# Altium footprint library sion.PcbLib: 26 footprints (part 1 of 2)
Each footprint in its own frame and in the unit in brackets; x right, y up, seen from the top. Pads: shape width x height; smd on the part's side, far side on the other; paste and mask are expansions set on the pad; w line width, h text height; cw(c..) or ccw(c..) is an arc to the next point about the centre after c.
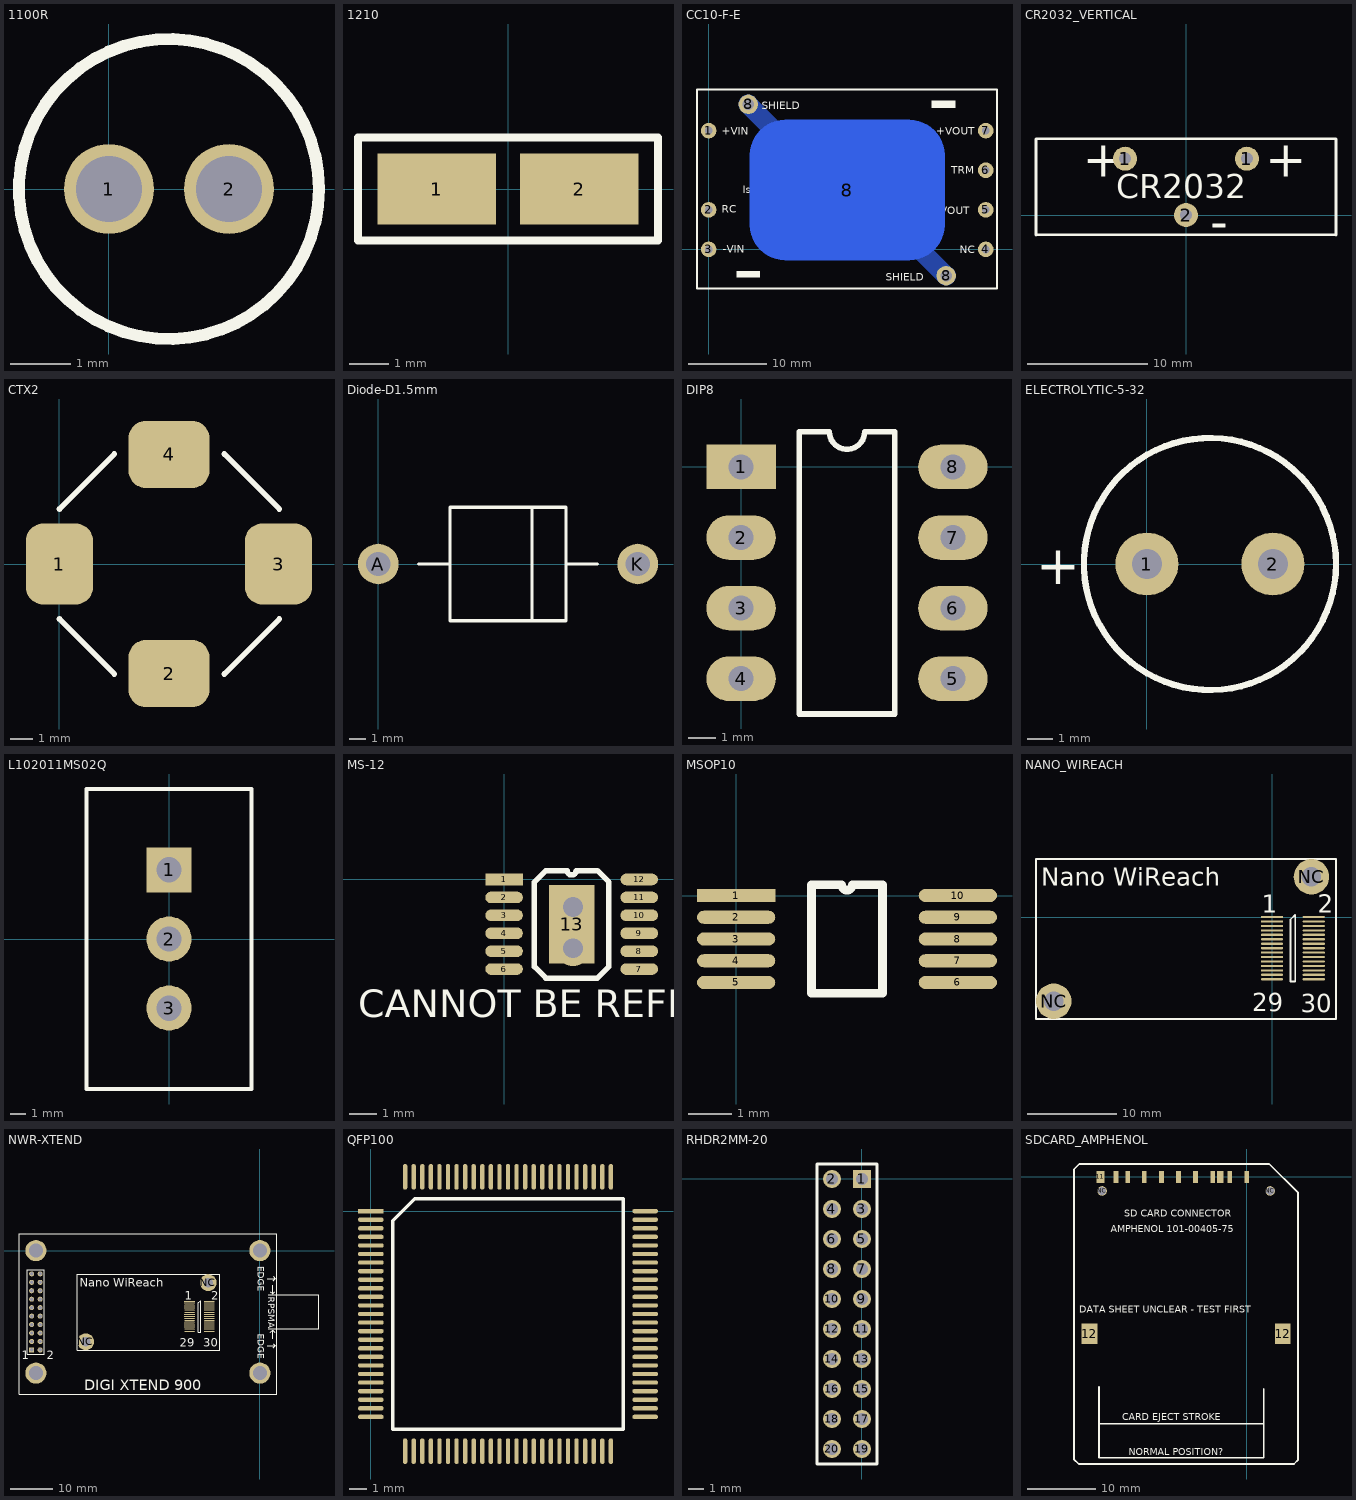
[diagram p0: the footprints below, top view; thin cyan lines are the x and y axes]

## 1100R [mm] "Radial Inductor"
pads (2):
  round 1.5 hole 1.1: 1(0,0) 2(2,0)
Top Overlay:
  circle w0.2: c1,0 r2.5

## 1210 [mm]
pads (2):
  rect 3x1.8 smd: 1(-1.8,0) 2(1.8,0)
Top Overlay:
  lines w0.2: -3.8,-1.3 -3.8,1.3 3.8,1.3 3.8,-1.3 -3.8,-1.3

## CC10-F-E [mm]
pads (10):
  round 2 hole 1: 1(0,15.24) 2(0,5.08) 3(0,0) 4(35.56,0) 5(35.56,5.08) 6(35.56,10.16) 7(35.56,15.24)
  round 2.5 hole 1.5: 8(5.08,18.62) 8(30.48,-3.38)
  rrect50% 25x18 smd far side: 8(17.78,7.62)
Bottom Layer:
  lines w2.5: 5.08,18.62 16.08,7.62 ; 19.48,7.62 30.48,-3.38
Top Overlay:
  rectangle: 3.58,-3.58 6.58,-2.78
  rectangle: 28.62,18.12 31.68,19.12
  lines w0.254: -1.5,-5 -1.5,-2 -1.5,20.5 37,20.5 37,-5 -1.5,-5
  text "SHIELD" at 22.7,-4 h1
  text "SHIELD" at 6.8,18 h1
  text "TDK-Lambda CC10-F-E" at 7.3,9.7 h1
  text "Isolated 10W DC-DC Converter" at 4.4,7.2 h1
  text "+VIN" at 1.7,14.7 h1
  text "RC" at 1.7,4.7 h1
  text "-VIN" at 1.8,-0.4 h1
  text "NC" at 32.2,-0.5 h1
  text "-VOUT" at 29.2,4.5 h1
  text "TRM" at 31.1,9.7 h1
  text "+VOUT" at 29.2,14.7 h1

## CR2032_VERTICAL [mm] "VBH2032-1-LF Coin cell vertical holder"
pads (3):
  round 2 hole 1: 1(-5.075,4.7) 1(5.075,4.7) 2(0,0)
Top Overlay:
  lines w0.2: -12.5,-1.65 12.5,-1.65 ; -12.5,6.35 12.5,6.35
  lines w0.254: -12.5,-1.65 -12.5,6.35 ; 12.5,-1.65 12.5,6.35
  text "+" at -8.6,3.2 h3
  text "+" at 6.6,3.2 h3
  text "-" at 2,-2 h3
  text "CR2032" at -5.8,1.4 h2

## CTX2 [mm] "Coupled Inductors"
pads (4):
  rrect50% 3.05x3.68 smd: 1(0,0) 3(9.96,0)
  rrect50% 3.68x3.05 smd: 2(4.98,-4.98) 4(4.98,4.98)
Top Overlay:
  lines w0.254: 0,-2.5 2.5,-5 ; 0,2.5 2.5,5 ; 7.5,-5 10,-2.5 ; 7.5,5 10,2.5

## Diode-D1.5mm [mm]
pads (2):
  round 2.5 hole 1.5: A(0,0) K(16,0)
Top Overlay:
  lines w0.2: 2.5,0 4.425,0 ; 9.475,-3.5 9.475,3.5 ; 11.575,0 13.5,0 ; 4.425,0 4.425,-3.5 11.575,-3.5 11.575,3.5 4.425,3.5 4.425,0

## DIP8 [mm]
pads (8):
  rect 2.5x1.6 hole 0.9: 1(0,0)
  oval 2.5x1.6 hole 0.9: 2(0,-2.54) 3(0,-5.08) 4(0,-7.62) 5(7.62,-7.62) 6(7.62,-5.08) 7(7.62,-2.54) 8(7.62,0)
Top Overlay:
  lines w0.2: 2.085,-8.89 2.085,1.27 3.175,1.27 ccw(c3.81,1.27) 4.445,1.27 5.535,1.27 5.535,-8.89 2.085,-8.89

## ELECTROLYTIC-5-32 [mm] "Supercapacitor"
pads (2):
  round 2.5 hole 1.2: 1(0,0) 2(5,0)
Top Overlay:
  circle w0.254: c2.5,0 r5
  text "+" at -4.4,-0.8 h1.52

## L102011MS02Q [mm] "SPDT 4A PCB CKC5107-ND"
pads (3):
  rect 3x3 hole 1.7: 1(0,4.6)
  round 3 hole 1.7: 2(0,0) 3(0,-4.6)
Top Overlay:
  lines w0.254: -5.5,-10 -5.5,10 5.5,10 5.5,-10 -5.5,-10

## MS-12 [mm] "LTC4425"
pads (13):
  rect 1.364x0.42 smd: 1(0,0)
  oval 1.364x0.42 smd: 2(0,-0.65) 3(0,-1.3) 4(0,-1.95) 5(0,-2.6) 6(0,-3.25) 7(4.9,-3.25) 8(4.9,-2.6) 9(4.9,-1.95) 10(4.9,-1.3) 11(4.9,-0.65) 12(4.9,0)
  rect 1.651x2.845 smd: 13(2.45,-1.625)
via 2.5,-2.5 diameter 1.27 hole 0.711
via 2.5,-1 diameter 1.27 hole 0.711
Top Overlay:
  lines w0.2: 1.1,-3.158 1.1,-0.092 1.517,0.325 2.288,0.325 ccw(c2.45,0.325) 2.612,0.325 3.383,0.325 3.8,-0.092 3.8,-3.158 3.383,-3.575 1.517,-3.575 1.1,-3.158
  text "CANNOT BE REFLOWED" at -5.3,-5 h1

## MSOP10 [mm] "ADM1191"
pads (10):
  rect 1.8x0.3 smd: 1(0,0)
  oval 1.8x0.3 smd: 2(0,-0.5) 3(0,-1) 4(0,-1.5) 5(0,-2) 6(5.1,-2) 7(5.1,-1.5) 8(5.1,-1) 9(5.1,-0.5) 10(5.1,0)
Top Overlay:
  lines w0.2: 1.735,-2.25 3.365,-2.25 3.365,0.25 2.675,0.25 cw(c2.55,0.25) 2.425,0.25 1.735,0.25 1.735,-2.25

## NANO_WIREACH [mm]
pads (32):
  rect 2.5x0.25 smd: 1(0,0)
  oval 2.5x0.25 smd: 2(4.7,0) 3(0,-0.5) 4(4.7,-0.5) 5(0,-1) 6(4.7,-1) 7(0,-1.5) 8(4.7,-1.5) 9(0,-2) 10(4.7,-2) 11(0,-2.5) 12(4.7,-2.5) 13(0,-3) 14(4.7,-3) 15(0,-3.5) 16(4.7,-3.5) 17(0,-4) 18(4.7,-4) 19(0,-4.5) 20(4.7,-4.5) 21(0,-5) 22(4.7,-5) 23(0,-5.5) 24(4.7,-5.5) 25(0,-6) 26(4.7,-6) 27(0,-6.5) 28(4.7,-6.5) 29(0,-7) 30(4.7,-7)
  round 4 hole 2.2: NC(-24.56,-9.47) NC(4.44,4.53)
Top Overlay:
  lines w0.2: 2.085,-7.25 2.085,-0.28 2.615,0.25 2.615,-7.25 2.085,-7.25
  lines w0.254: -26.56,-11.47 -18.55,-11.47 -3.95,-11.47 7.2,-11.47 7.2,-6 7.2,1.3 7.2,6.53 -4.75,6.53 -12.75,6.53 -26.56,6.53 -26.56,3.6 -26.56,-8 -26.56,-11.47
  text "2" at 5.15,0.5 h2
  text "30" at 3.25,-10.7 h2
  text "29" at -2.25,-10.6 h2
  text "Nano WiReach" at -25.95,3.5 h2
  text "1" at -1.15,0.5 h2

## NWR-XTEND [mm] "Dual footprint Nano Wireach - Digi XTEND"
pads (56):
  rect 2.5x0.25 smd: 1(-16.65,-12.1)
  oval 2.5x0.25 smd: 2(-11.95,-12.1) 3(-16.65,-12.6) 4(-11.95,-12.6) 5(-16.65,-13.1) 6(-11.95,-13.1) 7(-16.65,-13.6) 8(-11.95,-13.6) 9(-16.65,-14.1) 10(-11.95,-14.1) 11(-16.65,-14.6) 12(-11.95,-14.6) 13(-16.65,-15.1) 14(-11.95,-15.1) 15(-16.65,-15.6) 16(-11.95,-15.6) 17(-16.65,-16.1) 18(-11.95,-16.1) 19(-16.65,-16.6) 20(-11.95,-16.6) 21(-16.65,-17.1) 22(-11.95,-17.1) 23(-16.65,-17.6) 24(-11.95,-17.6) 25(-16.65,-18.1) 26(-11.95,-18.1) 27(-16.65,-18.6) 28(-11.95,-18.6) 29(-16.65,-19.1) 30(-11.95,-19.1)
  rect 1.2x1.2 hole 0.8: 101(-54,-23.5)
  round 1.2 hole 0.8: 102(-52,-23.5) 103(-54,-21.5) 104(-52,-21.5) 105(-54,-19.5) 106(-52,-19.5) 107(-54,-17.5) 108(-52,-17.5) 109(-54,-15.5) 110(-52,-15.5) 111(-54,-13.5) ""(-54,-11.5) ""(-54,-9.5) ""(-54,-7.5) ""(-54,-5.5) ""(-52,-13.5) ""(-52,-11.5) ""(-52,-9.5) ""(-52,-7.5) ""(-52,-5.5)
  round 4 hole 2.2: NC(-41.21,-21.57) NC(-12.21,-7.57)
  round 5 hole 3.3: ""(-53,-29) ""(-53,0) ""(0,-29) ""(0,0)
Top Overlay:
  lines w0.2: -55,-24.5 -55,-4.5 -51,-4.5 -51,-24.5 -55,-24.5 ; -14.565,-19.35 -14.035,-19.35 -14.035,-11.85 -14.565,-12.38 -14.565,-19.35
  lines w0.254: 1.7,-22.5 3.7,-22.5 ; 1.7,-6.6 3.7,-6.6 ; 2,-18.5 14,-18.5 14,-10.5 2,-10.5 ; 2.5,-19.3 3,-18.8 ; 2.5,-9.7 3,-10.2 ; 3,-20.8 3,-18.8 ; 3,-8.2 3,-10.2 ; 3.2,-23 3.7,-22.5 ; 3.2,-22 3.7,-22.5 ; 3.2,-7.1 3.7,-6.6 ; 3.2,-6.1 3.7,-6.6 ; 3.5,-19.3 3,-18.8 ; 3.5,-9.7 3,-10.2 ; -57,-34 -57,4 4,4 4,-34 -57,-34 ; -43.21,-23.57 -43.21,-20.1 -43.21,-8.5 -43.21,-5.57 -29.4,-5.57 -21.4,-5.57 -9.45,-5.57 -9.45,-10.8 -9.45,-18.1 -9.45,-23.57 -20.6,-23.57 -35.2,-23.57 -43.21,-23.57
  text "2" at -50.4,-25.7 h2
  text "1" at -56.4,-25.7 h2
  text "DIGI XTEND 900" at -41.6,-33 h2.5
  text "EDGE" at -0.5,-19.7 h1.52
  text "EDGE" at -0.5,-3.7 h1.52
  text "RPSMA" at 2,-10.9 h1.52
  text "1" at -17.8,-11.6 h2
  text "Nano WiReach" at -42.6,-8.6 h2
  text "29" at -18.9,-22.7 h2
  text "30" at -13.4,-22.8 h2
  text "2" at -11.5,-11.6 h2

## QFP100 [mm]
pads (100):
  rect 1.5x0.25 smd: 1(0,0)
  oval 1.5x0.25 smd: 2(0,-0.5) 3(0,-1) 4(0,-1.5) 5(0,-2) 6(0,-2.5) 7(0,-3) 8(0,-3.5) 9(0,-4) 10(0,-4.5) 11(0,-5) 12(0,-5.5) 13(0,-6) 14(0,-6.5) 15(0,-7) 16(0,-7.5) 17(0,-8) 18(0,-8.5) 19(0,-9) 20(0,-9.5) 21(0,-10) 22(0,-10.5) 23(0,-11) 24(0,-11.5) 25(0,-12) 51(16,-12) 52(16,-11.5) 53(16,-11) 54(16,-10.5) 55(16,-10) 56(16,-9.5) 57(16,-9) 58(16,-8.5) 59(16,-8) 60(16,-7.5) 61(16,-7) 62(16,-6.5) 63(16,-6) 64(16,-5.5) 65(16,-5) 66(16,-4.5) 67(16,-4) 68(16,-3.5) 69(16,-3) 70(16,-2.5) 71(16,-2) 72(16,-1.5) 73(16,-1) 74(16,-0.5) 75(16,0)
  oval 0.25x1.5 smd: 26(2,-14) 27(2.5,-14) 28(3,-14) 29(3.5,-14) 30(4,-14) 31(4.5,-14) 32(5,-14) 33(5.5,-14) 34(6,-14) 35(6.5,-14) 36(7,-14) 37(7.5,-14) 38(8,-14) 39(8.5,-14) 40(9,-14) 41(9.5,-14) 42(10,-14) 43(10.5,-14) 44(11,-14) 45(11.5,-14) 46(12,-14) 47(12.5,-14) 48(13,-14) 49(13.5,-14) 50(14,-14) 76(14,2) 77(13.5,2) 78(13,2) 79(12.5,2) 80(12,2) 81(11.5,2) 82(11,2) 83(10.5,2) 84(10,2) 85(9.5,2) 86(9,2) 87(8.5,2) 88(8,2) 89(7.5,2) 90(7,2) 91(6.5,2) 92(6,2) 93(5.5,2) 94(5,2) 95(4.5,2) 96(4,2) 97(3.5,2) 98(3,2) 99(2.5,2) 100(2,2)
Top Overlay:
  lines w0.2: 1.285,-12.715 1.285,-0.57 2.57,0.715 14.715,0.715 14.715,-12.715 1.285,-12.715

## RHDR2MM-20 [mm] "XTEND Reverse Header 2mm 20pole"
pads (20):
  rect 1.2x1.2 hole 0.8: 1(0,0)
  round 1.2 hole 0.8: 2(-2,0) 3(0,-2) 4(-2,-2) 5(0,-4) 6(-2,-4) 7(0,-6) 8(-2,-6) 9(0,-8) 10(-2,-8) 11(0,-10) 12(-2,-10) 13(0,-12) 14(-2,-12) 15(0,-14) 16(-2,-14) 17(0,-16) 18(-2,-16) 19(0,-18) 20(-2,-18)
Top Overlay:
  lines w0.2: -3,-19 1,-19 1,1 -3,1 -3,-19

## SDCARD_AMPHENOL [mm] "101-00405-75"
pads (15):
  rect 0.7x1.7 smd: 1(-2.5,0) 2(-5,0) 3(-7.5,0) 4(-10,0) 5(-12.5,0) 6(-15,0) 7(-17.425,0) 8(-19.125,0) 9(0,0)
  rect 0.95x1.7 smd: 10(-3.875,0)
  rect 1.2x1.7 smd: 11(-21.43,0)
  rect 2.3x3 smd: 12(-23.025,-22.95) 12(5.275,-22.95)
  round 1.4 hole 1.2: NC(-21.175,-2.05) NC(3.425,-2.05)
Top Overlay:
  lines w0.254: -21.625,-36.1 2.475,-36.1 ; -21.625,-30.7 -21.625,-41.1 -19.8,-41.1 1.4,-41.1 2.475,-41.1 2.475,-30.975 ; -25.3,-41.3 -25.3,-38.3 -25.3,1.1 -24.5,1.9 3.3,1.9 7.5,-2.3 7.5,-37.7 7.5,-41.4 6.9,-42 -24.6,-42 -25.3,-41.3
  text "AMPHENOL 101-00405-75" at -19.9,-8.1 h1
  text "SD CARD CONNECTOR" at -17.9,-5.8 h1
  text "DATA SHEET UNCLEAR - TEST FIRST" at -24.5,-19.9 h1
  text "NORMAL POSITION?" at -17.3,-40.7 h1
  text "CARD EJECT STROKE" at -18.2,-35.6 h1